# Altium footprint library CAP_25SVPF56M.PcbLib: 1 footprints
Each footprint in its own frame and in the unit in brackets; x right, y up, seen from the top. Pads: shape width x height; smd on the part's side, far side on the other; paste and mask are expansions set on the pad; w line width, h text height; cw(c..) or ccw(c..) is an arc to the next point about the centre after c.
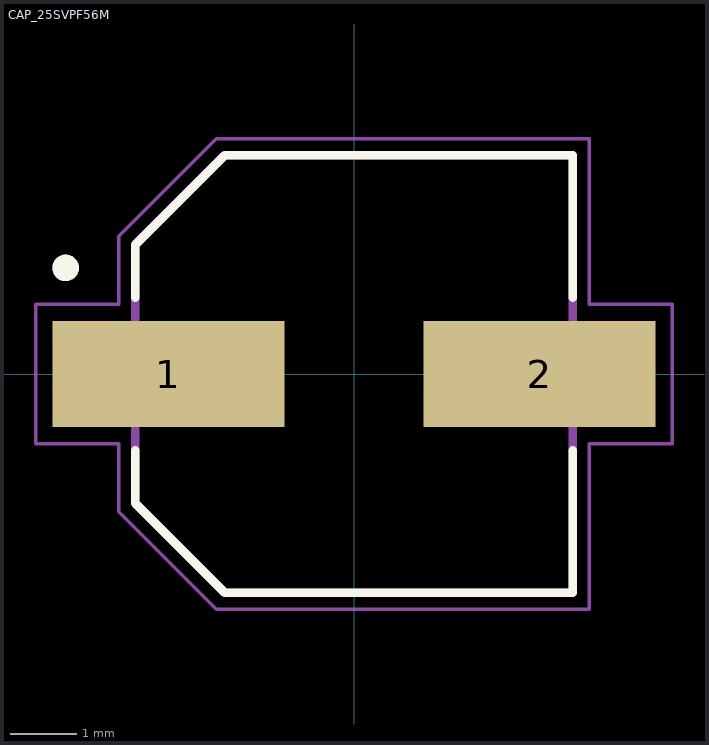
[diagram p0: the footprint, top view; thin cyan lines are the x and y axes]

## CAP_25SVPF56M [mm]
height 5.9
pads (2):
  rect 3.5x1.6 smd: 1(-2.8,0) 2(2.8,0)
Top Overlay:
  circle w0.2: c-4.35,1.6 r0.1
  lines w0.127: -3.3,-1.15 -3.3,-1.95 -1.95,-3.3 3.3,-3.3 3.3,-1.15 ; -3.3,1.15 -3.3,1.95 -1.95,3.3 3.3,3.3 3.3,1.15
Assembly Top:
  circle w0.2: c-4.35,1.6 r0.1
  lines w0.127: -3.3,-1.95 -3.3,1.95 -1.95,3.3 3.3,3.3 3.3,-3.3 -1.95,-3.3 -3.3,-1.95
Courtyard Top:
  lines w0.05: -4.8,-1.05 -4.8,1.05 -3.55,1.05 -3.55,2.075 -2.075,3.55 3.55,3.55 3.55,1.05 4.8,1.05 4.8,-1.05 3.55,-1.05 3.55,-3.55 -2.075,-3.55 -3.55,-2.075 -3.55,-1.05 -4.8,-1.05
3D body "step_temp.STEP": height 5.9, standoff 0, extent -3.65,-3.3 3.65,3.3